# Altium schematic symbol library pira-smart-schlib.SchLib: 26 symbols
Pins are listed as number, name and electrical type; pins without a type are passive.

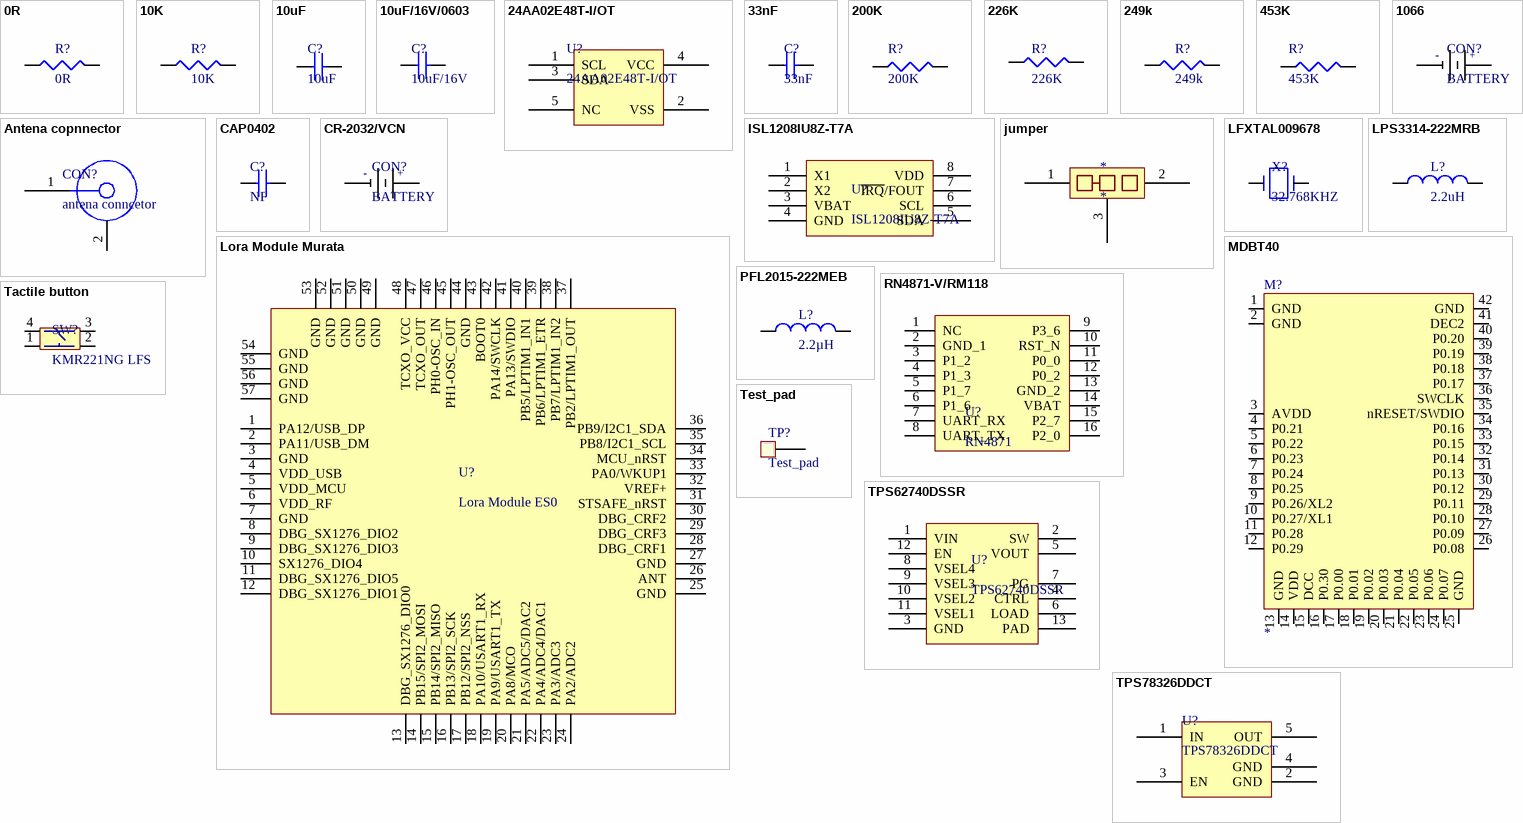
[diagram p0: symbols 0R to TPS78326DDCT]

## 0R
designator R?
Zero ohm resistor
footprint RES0603
pins: 1, 2

## 10K
designator R?
10K resistor
footprint RES0603
pins: 1, 2

## 10uF
designator C?
10uf/0603/20%; Manufacturer: KEMET; Manufacturer Part Number: C0603C106M8PACTU; Supplier 1: Farnell; Stock 1: 0; Pricing 1: 10=0.555, 100=0.315, 500=0.238, 1000=0.2, 2000=0.174, 4000=0.143, 20000=0.123 (GBP); Supplier Part Number 1: 2820985
footprint CAP0603
pins: 1, 2

## 10uF/16V/0603
designator C?, comment 10uF/16V
Multilayer Ceramic Capacitors MLCC - SMD/SMT 0603 10uF 16volts X5R 10%; Manufacturer: Murata; Manufacturer Part Number: GRM188R61C106KAALD; Voltage Rating DC: 16 VDC; Brand: Murata Electronics; Class: Class 2; Type: General Purpose Ceramic Capacitors; Unit Weight: 0.000222 oz; Supplier 1: Farnell; Stock 1: 13160; Pricing 1: 10=0.442, 100=0.241, 500=0.166, 1000=0.129 (GBP); Product Category: Multilayer Ceramic Capacitors MLCC - SMD/SMT; RoHS: True; Capacitance: 10 uF; Dielectric: X5R; Tolerance: 10 %; Case Code - in: 0603; Case Code - mm: 1608; Height: 0.8 mm; Maximum Operating Temperature: + 85 C; Minimum Operating Temperature: - 55 C; Product: General Type MLCCs; Series: GRM; Packaging: Reel; Length: 1.6 mm; Package / Case: 0603 (1608 metric); Factory Pack Quantity: 4000; Termination Style: SMD/SMT; Width: 0.8 mm; Supplier Part Number 1: 2611923
footprint CAP0603
pins: 1, 2

## 24AA02E48T-I/OT
designator U?
MICROCHIP   24AA02E48T-I/OT   EEPROM, EUI-48 Node Identity, 2 Kbit, 2 BLK (128K x 8bit), 400 kHz, I2C, SOT-23, 5 Pins; Interface: I2C,Serial; Access Time: 3500ns; Frequency: 400kHz; Max Supply Voltage: 5.5V; Min Supply Voltage: 1.7V; Nominal Supply Current: 3mA; Density: 2Kb; Operating Supply Voltage: 5V; Max Frequency: 100kHz; Supplier 1: Farnell; Manufacturer: Microchip; Manufacturer Part Number: 24AA02E48T-I/OT; Stock 1: 13638; Pricing 1: 1 = 0.17600, 10 = 0.17100, 25 = 0.16400, 50 = 0.16000, 100 = 0.15600 (GBP); RoHS: Yes; Mount: Surface Mount; Case/Package: SOT-23; Number of Pins: 5; Min Operating Temperature: -40°C; Max Operating Temperature: 85°C; Packaging: Tape and Reel; Package Quantity: 3000; Memory Type: EEPROM; Memory Size: 2Kb; Termination: SMD/SMT; Length: 3.1mm; Height: 1.3mm; Width: 1.8mm; Radiation Hardening: No; REACH SVHC: No SVHC; Lead Free: Lead Free; ComponentLink1URL: http://www.farnell.com/datasheets/1725195.pdf?src-supplier=Element14; ComponentLink1Description: http://www.farnell.com/datasheets/1725195.pdf?src-supplier=Element14; ComponentLink2URL: http://www.farnell.com/datasheets/631538.pdf?src-supplier=Element14; ComponentLink2Description: http://www.farnell.com/datasheets/631538.pdf?src-supplier=Element14; ComponentLink3URL: http://ww1.microchip.com/downloads/en/DeviceDoc/22124D.pdf?src-supplier=Avnet+Europe; ComponentLink3Description: http://ww1.microchip.com/downloads/en/DeviceDoc/22124D.pdf?src-supplier=Avnet+Europe; ComponentLink4URL: http://www.microchip.com/mymicrochip/filehandler.aspx?ddocname=en538826&src-supplier=Future+Electronics; ComponentLink4Description: http://www.microchip.com/mymicrochip/filehandler.aspx?ddocname=en538826&src-supplier=Future+Electronics; ComponentLink5URL: http://www.produktinfo.conrad.com/datenblaetter/650000-674999/651228-da-01-en-EEPROM_24AA02E48T_I_OT_SOT_23_5_MCP.pdf?src-supplier=Conrad; ComponentLink5Description: http://www.produktinfo.conrad.com/datenblaetter/650000-674999/651228-da-01-en-EEPROM_24AA02E48T_I_OT_SOT_23_5_MCP.pdf?src-supplier=Conrad; Supplier Part Number 1: 1688855
footprint SOT95P280X145-5N (SOT23, 5-Leads, Body 2.90x2.80mm, Pitch 0.95mm, IPC Medium Density)
pins: 1 SCL, 2 VSS, 3 SDA, 4 VCC, 5 NC

## 33nF
designator C?
MULTICOMP   MC0603B333K250CT   Multilayer Ceramic Capacitor, MC Series, 0.033 F,  10%, X7R, 25 V, 0603 [1608 Metric]; SVHC: To Be Advised; Voltage Rating: 25V; Capacitor Terminals: SMD; Supplier 1: Farnell; Manufacturer: Multicomp; Manufacturer Part Number: MC0603B333K250CT; Stock 1: 9606; Pricing 1: 10=0.0225, 100=0.0163, 500=0.0101, 1000=0.0083, 2000=0.007 (EUR); Capacitance: 33nF; Capacitance Tolerance: ± 10%; Dielectric Characteristic: X7R; Capacitor Case Style: 0603 [1608 Metric]; Operating Temperature Min: -55°C; Operating Temperature Max: 125°C; Packaging: Full Reel; MSL: (Not Available); ComponentLink1URL: https://datasheet.ciiva.com/22675/1901289-22675775.pdf; ComponentLink1Description: https://datasheet.ciiva.com/22675/1901289-22675775.pdf
footprint CAP0603
pins: 1, 2

## 200K
designator R?
PANASONIC ELECTRONIC COMPONENTS         ERA3AEB204V             SMD Chip Resistor, Thin Film, 200 kohm, 75 V, 0603 [1608 Metric], 100 mW,  0.1%, ERA Series; Manufacturer Part Number: ERA-3AEB204V; Power Rating: 100mW; Voltage Rating: 75V; Temperature Coefficient: ± 25ppm/°C; No. of Pins: 2; Product Range: PANASONIC - ERA Series; SVHC: No SVHC (16-Dec-2013); Reel Quantity: 5000; Supplier 1: Farnell; Manufacturer: Panasonic; Stock 1: 0; Resistance: 200kohm; Resistance Tolerance: ± 0.1%; Resistor Element Material: Thin Film; Resistor Case Style: 0603 [1608 Metric]; Resistor Mounting: SMD; Operating Temperature Max: 155°C; Operating Temperature Min: -55°C; Operating Temperature Range: -55°C to +155°C; Package / Case: 0603; Series: ERA; Packaging: Tape & Reel; ComponentLink1URL: https://www.distrelec.biz/Web/Downloads/_t/ds/ERA_eng_tds.pdf?mime=application%2Fpdf; ComponentLink1Description: https://www.distrelec.biz/Web/Downloads/_t/ds/ERA_eng_tds.pdf?mime=application%2Fpdf; ComponentLink2URL: http://www.farnell.com/datasheets/485442.pdf; ComponentLink2Description: http://www.farnell.com/datasheets/485442.pdf; ComponentLink3URL: http://www.farnell.com/datasheets/2059650.pdf; ComponentLink3Description: http://www.farnell.com/datasheets/2059650.pdf; ComponentLink4URL: http://www.farnell.com/datasheets/39837.pdf; ComponentLink4Description: http://www.farnell.com/datasheets/39837.pdf; ComponentLink5URL: http://industrial.panasonic.com/www-data/pdf/AOA0000/AOA0000CE26.pdf; ComponentLink5Description: http://industrial.panasonic.com/www-data/pdf/AOA0000/AOA0000CE26.pdf; ComponentLink6URL: https://www.alliedelec.com/m/d/b6b0537e86f421aa7f5975bb1d8f429a.pdf; ComponentLink6Description: https://www.alliedelec.com/m/d/b6b0537e86f421aa7f5975bb1d8f429a.pdf; ComponentLink7URL: http://www.produktinfo.conrad.com/datenblaetter/450000-474999/451764-da-01-en-WIDERSTAND_0603_ERA.pdf; ComponentLink7Description: http://www.produktinfo.conrad.com/datenblaetter/450000-474999/451764-da-01-en-WIDERSTAND_0603_ERA.pdf; Supplier Part Number 1: 1670206
footprint RES0603
pins: 1, 2

## 226K
designator R?
Thick Film Resistors - SMD 1/10watt 226Kohms 1%; Manufacturer: Vishay; Manufacturer Part Number: CRCW0603226KFKEA; Brand: Vishay / Dale; Power Rating: 100 mW; Temperature Coefficient: 100 PPM / K; Voltage Rating: 75 V; Unit Weight: 0.000071 oz; Supplier 1: Farnell; Stock 1: 6700; Pricing 1: 10=0.0188, 100=0.0145, 500=0.0124, 1000=0.008 (GBP); Product Category: Thick Film Resistors - SMD; RoHS: Details; Resistance: 226 kOhms; Tolerance: 1 %; Case Code - in: 0603; Case Code - mm: 1608; Operating Temperature Range: - 55 C to + 155 C; Series: CRCW; Height: 0.45 mm; Length: 1.55 mm; Package / Case: 0603 (1608 metric); Packaging: Reel; Product: Thick Film Resistors SMD; Factory Pack Quantity: 5000; Termination Style: SMD/SMT; Width: 0.85 mm; ComponentLink1URL: http://www.mouser.com/ds/2/427/dcrcwe3-109170.pdf; ComponentLink1Description: http://www.mouser.com/ds/2/427/dcrcwe3-109170.pdf; ComponentLink2URL: http://www.vishay.com/docs/20035/dcrcwe3.pdf; ComponentLink2Description: http://www.vishay.com/docs/20035/dcrcwe3.pdf; ComponentLink3URL: http://www.farnell.com/datasheets/2045674.pdf; ComponentLink3Description: http://www.farnell.com/datasheets/2045674.pdf; ComponentLink4URL: https://www.alliedelec.com/m/d/0c934d6939ccefa68dbe0b96d821c8cf.pdf; ComponentLink4Description: https://www.alliedelec.com/m/d/0c934d6939ccefa68dbe0b96d821c8cf.pdf; ComponentLink5URL: http://uk.rs-online.com/webdocs/0d98/0900766b80d98afc.pdf; ComponentLink5Description: http://uk.rs-online.com/webdocs/0d98/0900766b80d98afc.pdf; ComponentLink6URL: http://www.alliedelec.com/m/d/0c934d6939ccefa68dbe0b96d821c8cf.pdf; ComponentLink6Description: http://www.alliedelec.com/m/d/0c934d6939ccefa68dbe0b96d821c8cf.pdf; ComponentLink7URL: http://www.farnell.com/datasheets/2111203.pdf; ComponentLink7Description: http://www.farnell.com/datasheets/2111203.pdf; Supplier Part Number 1: 2138531
footprint RES0603
pins: 1, 2

## 249k
designator R?
MULTICOMP         MCWR06X2493FTL             SMD Chip Resistor, Thick Film, 249 kohm, 50 V, 0603 [1608 Metric], 100 mW,  1%, MCWR Series; Voltage Rating: 50V; Power Rating: 100mW; Temperature Coefficient: ± 100ppm/°C; SVHC: No SVHC (17-Dec-2015); Supplier 1: Farnell; Manufacturer: Multicomp; Manufacturer Part Number: MCWR06X2493FTL; Stock 1: 5347; Pricing 1: 10=0.0035, 100=0.0021, 500=0.0015, 1000=0.0012, 2500=0.001 (EUR); Resistance: 249kohm; Resistor Case Style: 0603 [1608 Metric]; Resistance Tolerance: ± 1%; Product Range: MCWR Series; Packaging: Cut Tape; Resistor Element Type: Thick Film; Automotive Qualification Standard: -; MSL: -; ComponentLink1URL: http://www.farnell.com/datasheets/1849611.pdf; ComponentLink1Description: http://www.farnell.com/datasheets/1849611.pdf; Supplier Part Number 1: 2447306
footprint RES0603
pins: 1, 2

## 453K
designator R?
RES SMD 453K OHM 1% 1/10W 0603; Manufacturer: Vishay; Manufacturer Part Number: CRCW0603453KFKEA; Brand: Vishay / Dale; Resistance: 453 kOhms; Power Rating: 100 mW; Temperature Coefficient: 100 PPM / K; Voltage Rating: 75 V; Case Height: 0.45 mm; Case Length: 1.55 mm; Case Width: 0.85 mm; Unit Weight: 0.000071 oz; Supplier 1: Farnell; Stock 1: 24488; Pricing 1: 10=0.0188, 100=0.0145, 500=0.0125, 1000=0.008 (GBP); Product Category: Thick Film Resistors - SMD; RoHS: Details; Tolerance: 1 %; Case Code - in: 0603; Case Code - mm: 1608; Operating Temperature Range: - 55 C to + 155 C; Package / Case: 0603 (1608 metric); Packaging: Reel; Product: Thick Film Resistors SMD; Series: CRCW; Factory Pack Quantity: 5000; ComponentLink1URL: http://www.vishay.com/docs/20035/dcrcwe3.pdf; ComponentLink1Description: http://www.vishay.com/docs/20035/dcrcwe3.pdf; ComponentLink2URL: http://www.farnell.com/datasheets/125364.pdf; ComponentLink2Description: http://www.farnell.com/datasheets/125364.pdf; ComponentLink3URL: http://www.farnell.com/datasheets/2111203.pdf; ComponentLink3Description: http://www.farnell.com/datasheets/2111203.pdf; ComponentLink4URL: http://www.mouser.com/ds/2/427/dcrcwe3-109170.pdf; ComponentLink4Description: http://www.mouser.com/ds/2/427/dcrcwe3-109170.pdf; ComponentLink5URL: http://www.farnell.com/datasheets/1697337.pdf; ComponentLink5Description: http://www.farnell.com/datasheets/1697337.pdf; ComponentLink6URL: http://www.farnell.com/datasheets/2049244.pdf; ComponentLink6Description: http://www.farnell.com/datasheets/2049244.pdf; Supplier Part Number 1: 2138564
footprint RES0603
pins: 1, 2

## 1066
designator CON?, comment BATTERY
HOLDER BATT COIN COMPACT 20MM; Manufacturer: Keystone Electronics; Manufacturer Part Number: 1066; Body Material: Nylon,Glass; Number of Batteries: 1; Approvals: UL; Supplier 1: Farnell; Stock 1: 17073; Pricing 1: 1=1, 50=0.97, 100=0.947, 500=0.927, 1000=0.847 (EUR); Mount: Through Hole,Holder,PCB; Contact Plating: Tin; Contact Material: Bronze,Copper,Tin; Material: Bronze; Min Operating Temperature: -50°C; Max Operating Temperature: 145°C; Packaging: Bulk; Number of Cells: 1; Package Quantity: 1; Termination: PC Pin; Diameter: 20mm; REACH SVHC: No SVHC; Lead Free: Lead Free; ComponentLink1URL: https://datasheet.ciiva.com/3/1066-3994.pdf; ComponentLink1Description: https://datasheet.ciiva.com/3/1066-3994.pdf; ComponentLink2URL: https://datasheet.ciiva.com/1391/1718229-1391198.pdf; ComponentLink2Description: https://datasheet.ciiva.com/1391/1718229-1391198.pdf; ComponentLink3URL: https://datasheet.ciiva.com/12342/m60p3-4068-12342995.pdf; ComponentLink3Description: https://datasheet.ciiva.com/12342/m60p3-4068-12342995.pdf; ComponentLink4URL: https://datasheet.ciiva.com/18403/70181436-18403177.pdf; ComponentLink4Description: https://datasheet.ciiva.com/18403/70181436-18403177.pdf; ComponentLink5URL: https://datasheet.ciiva.com/22643/1814063-22643020.pdf; ComponentLink5Description: https://datasheet.ciiva.com/22643/1814063-22643020.pdf; ComponentLink6URL: https://datasheet.ciiva.com/16322/m60-2p3-16322780.pdf; ComponentLink6Description: https://datasheet.ciiva.com/16322/m60-2p3-16322780.pdf; Supplier Part Number 1: 2293258
footprint 1066_1066(Primary)
pins: NEG, POS
text: -; +

## Antena copnnector
designator CON?, comment antena conncetor
CONN UMC JACK STR 50 OHM SMD; Manufacturer: Hirose; Manufacturer Part Number: U.FL-R-SMT-1(10); Featured Product: U.FL Series Connectors; Connector Style: U.FL, Ultra Miniature Coaxial; Connector Type: Receptacle, Male Pin; Contact Termination: Solder; Impedance: 50 Ohm; Frequency - Max: 6GHz; Body Material: Phosphor Bronze; Body Finish: Silver; Center Contact Material: Brass; Center Contact Plating: Gold; Dielectric Material: Liquid Crystal Polymer (LCP); Online Catalog: UMCC (Ultra Miniature Coax Connectors), U.FL Series; Other Names: H11891TR  Q5400621  U.FL-R-SMT-1 10  U.FL-R-SMT-1(10)-ND  UFLRSMT110; Supplier 1: Farnell; Stock 1: 0; Standard Package: 2,500; Category: Connectors, Interconnects; Family: Coaxial Connectors (RF); Series: U.FL; Packaging: Tape & Reel (TR); Shield Termination: Solder; Mounting Type: Surface Mount; Cable Group: -; Fastening Type: Snap-On; Features: -; Housing Color: Beige; Ingress Protection: -; Voltage Rating: -; Operating Temperature: -40°C ~ 90°C; ComponentLink1URL: http://www.farnell.com/datasheets/91524.pdf; ComponentLink1Description: http://www.farnell.com/datasheets/91524.pdf; ComponentLink2URL: http://uk.rs-online.com/webdocs/1363/0900766b81363563.pdf; ComponentLink2Description: http://uk.rs-online.com/webdocs/1363/0900766b81363563.pdf; ComponentLink3URL: http://www.farnell.com/datasheets/1947917.pdf; ComponentLink3Description: http://www.farnell.com/datasheets/1947917.pdf; Supplier Part Number 1: 1688077
footprint ufl connector smd
pins: 1 (oc), 2 (oc)

## CAP0402
designator C?, comment NF
Cap 0402 footprint only
footprint Model Name (Footprint not found)
footprint CAP0402
pins: 1, 2

## CR-2032/VCN
designator CON?, comment BATTERY
BATT LITH COIN 3V CELL PC PINS; Manufacturer: Panasonic BSG; Manufacturer Part Number: CR-2032/VCN; Brand: Panasonic Battery; Battery Size: 2032; Capacity: 225 mAh; Chemistry: Lithium; Rechargeable/Non-Rechargeable: Non-Rechargeable; Supplier 1: Farnell; Stock 1: 1004; Pricing 1: 1=0.91, 50=0.892, 100=0.874, 500=0.855, 1000=0.837 (GBP); Product Category: Coin Cell Battery; RoHS: Not Applicable; Series: CR; Output Voltage: 3 V; Termination Style: Through Hole; Orientation: Vertical; Diameter: 20 mm; Height: 3.2 mm; Operating Temperature Range: - 30 C to + 60 C; Packaging: Bulk; Factory Pack Quantity: 480; Type: Lithium Primary Coil Batteries; Part # Aliases: CR-2032/VCN; ComponentLink1URL: http://www.mouser.com/ds/2/315/AAA4000CE51-586417.pdf; ComponentLink1Description: http://www.mouser.com/ds/2/315/AAA4000CE51-586417.pdf; ComponentLink2URL: http://uk.rs-online.com/webdocs/108e/0900766b8108ebf4.pdf; ComponentLink2Description: http://uk.rs-online.com/webdocs/108e/0900766b8108ebf4.pdf; ComponentLink3URL: https://na.industrial.panasonic.com/sites/default/pidsa/files/panasonic-lithium-cr2032-datasheet.pdf; ComponentLink3Description: https://na.industrial.panasonic.com/sites/default/pidsa/files/panasonic-lithium-cr2032-datasheet.pdf; Supplier Part Number 1: 1892670
footprint CR-2032/VCN
pins: NEG, POS
text: -; +

## ISL1208IU8Z-T7A
designator U?
IC RTC/CALENDAR I2C LP 8MSOP; Manufacturer: Intersil; Max Supply Voltage: 5.5V; Min Supply Voltage: 2.7V; Non-volatile Memory Size: 2B; Interface: I2C,Serial,2-Wire; Logic Function: Clock; Time Format: HH:MM:SS; Date Format: YY-MM-DD-dd; Supplier 1: Farnell; Manufacturer Part Number: ISL1208IU8Z-T7A; Stock 1: 321; Pricing 1: 1=2.63, 10=2.24, 25=2.12, 50=2.01, 100=1.89, 250=1.84, 500=1.65, 1000=1.37 (EUR); Mount: Surface Mount; Case/Package: MSOP; Number of Pins: 8; Min Operating Temperature: -40°C; Max Operating Temperature: 85°C; Packaging: Tape and Reel; Package Quantity: 250; Memory Size: 2B; Radiation Hardening: No; REACH SVHC: Unknown; Lead Free: Lead Free; ComponentLink1URL: https://datasheet.ciiva.com/16293/fn8085-16293145.pdf; ComponentLink1Description: https://datasheet.ciiva.com/16293/fn8085-16293145.pdf; ComponentLink2URL: https://datasheet.ciiva.com/8145/fn8085-8145071.pdf; ComponentLink2Description: https://datasheet.ciiva.com/8145/fn8085-8145071.pdf; ComponentLink3URL: https://datasheet.ciiva.com/6668/fn8085-6668119.pdf; ComponentLink3Description: https://datasheet.ciiva.com/6668/fn8085-6668119.pdf; ComponentLink4URL: https://datasheet.ciiva.com/6668/fn8085-6668117.pdf; ComponentLink4Description: https://datasheet.ciiva.com/6668/fn8085-6668117.pdf; ComponentLink5URL: https://datasheet.ciiva.com/6668/fn8085-6668118.pdf; ComponentLink5Description: https://datasheet.ciiva.com/6668/fn8085-6668118.pdf; Supplier Part Number 1: 2543322
footprint TSOP65P500X110-8N (TSOP, 8-Leads, Body 3.00x3.00mm, Pitch 0.65mm, IPC Medium Density)
pins: 1 X1 (oc), 2 X2 (oc), 3 VBAT (oc), 4 GND (oc), 5 SDA (oc), 6 SCL (oc), 7 ~{IRQ}/FOUT (oc), 8 VDD (oc)

## jumper
designator *
pins: 1 (oc), 2 (oc), 3 (oc)

## LFXTAL009678
designator X?, comment 32.768KHZ
CRYSTAL, 32.768KHZ, 12.5PF, SMD; Manufacturer: IQD; Manufacturer Part Number: LFXTAL009678; Frequency: 32.8kHz; Supplier 1: Farnell; Stock 1: 15609; Pricing 1: 5=0.283, 50=0.203, 250=0.169, 500=0.163, 1500=0.157, 3000=0.152, 15000=0.146 (EUR); Case/Package: 217; Number of Pins: 2; Min Operating Temperature: -40°C; Max Operating Temperature: 85°C; Load Capacitance: 12.5pF; REACH SVHC: No SVHC; ComponentLink1URL: https://datasheet.ciiva.com/46419/1852967-46419749.pdf; ComponentLink1Description: https://datasheet.ciiva.com/46419/1852967-46419749.pdf; Supplier Part Number 1: 2449398
footprint LFXTAL009678
pins: 1, 2

## Lora Module Murata
designator U?, comment Lora Module ES0
Lora Module Murata; Manufacturer Part Number: CMWX1ZZABZ-091; Supplier 1: Farnell; Manufacturer: Murata; Stock 1: 175; Pricing 1: 1=11.7, 5=11.06, 10=9.94, 50=9.54, 100=9.14, 250=8.05 (GBP); Supplier Part Number 1: 2802546
footprint Lora Module ES0
pins: 1 PA12/USB_DP, 2 PA11/USB_DM, 3 GND, 4 VDD_USB, 5 VDD_MCU, 6 VDD_RF, 7 GND, 8 DBG_SX1276_DIO2, 9 DBG_SX1276_DIO3, 10 SX1276_DIO4, 11 DBG_SX1276_DIO5, 12 DBG_SX1276_DIO1, 13 DBG_SX1276_DIO0, 14 PB15/SPI2_MOSI, 15 PB14/SPI2_MISO, 16 PB13/SPI2_SCK, 17 PB12/SPI2_NSS, 18 PA10/USART1_RX, 19 PA9/USART1_TX, 20 PA8/MCO, 21 PA5/ADC5/DAC2, 22 PA4/ADC4/DAC1, 23 PA3/ADC3, 24 PA2/ADC2, 25 GND, 26 ANT, 27 GND, 28 DBG_CRF1, 29 DBG_CRF3, 30 DBG_CRF2, 31 STSAFE_nRST, 32 VREF+, 33 PA0/WKUP1, 34 MCU_nRST, 35 PB8/I2C1_SCL, 36 PB9/I2C1_SDA, 37 PB2/LPTIM1_OUT, 38 PB7/LPTIM1_IN2, 39 PB6/LPTIM1_ETR, 40 PB5/LPTIM1_IN1, 41 PA13/SWDIO, 42 PA14/SWCLK, 43 BOOT0, 44 GND, 45 PH1-OSC_OUT, 46 PH0-OSC_IN, 47 TCXO_OUT, 48 TCXO_VCC, 49 GND, 50 GND, 51 GND, 52 GND, 53 GND, 54 GND, 55 GND, 56 GND, 57 GND

## LPS3314-222MRB
designator L?, comment 2.2uH
COILCRAFT   LPS3314-222MRB   INDUCTOR, SHLD, 2.2UH, 20%, 1.2A, SMD; Core Material: Ferrite; Saturation Current: 1.4A; DC Resistance (DCR): 100mR; Shielding: Shielded; Max DC Current: 1.5A; Self Resonant Frequency: 140MHz; Test Frequency: 100kHz; Supplier 1: Farnell; Manufacturer: Coilcraft; Manufacturer Part Number: LPS3314-222MRB; Stock 1: 608; Pricing 1: 1=0.898, 250=0.706, 500=0.555 (EUR); Weight: 0.001411oz; Min Operating Temperature: -40°C; Max Operating Temperature: 85°C; Inductance Tolerance: 20%; Packaging: Cut Tape; Inductance: 2.2uh; RMS Current (Irms): 1.2A; Termination: SMD/SMT; Tolerance: 20%; Package Quantity: 1; Length: 3mm; Height: 1.4mm; Width: 3mm; REACH SVHC: No SVHC; ComponentLink1URL: https://datasheet.ciiva.com/46438/1805322-46438527.pdf; ComponentLink1Description: https://datasheet.ciiva.com/46438/1805322-46438527.pdf; ComponentLink2URL: https://datasheet.ciiva.com/46384/1805322-46384794.pdf; ComponentLink2Description: https://datasheet.ciiva.com/46384/1805322-46384794.pdf; Supplier Part Number 1: 2408039
footprint LPS3314
pins: 1, 2

## MDBT40
designator M?
MDBT40
footprint PCB_MDBT40_10X18
pins: 1 GND, 2 GND, 3 AVDD, 4 P0.21, 5 P0.22, 6 P0.23, 7 P0.24, 8 P0.25, 9 P0.26/XL2, 10 P0.27/XL1, 11 P0.28, 12 P0.29, 13 GND, 14 VDD, 15 DCC, 16 P0.30, 17 P0.00, 18 P0.01, 19 P0.02, 20 P0.03, 21 P0.04, 22 P0.05, 23 P0.06, 24 P0.07, 25 GND, 26 P0.08, 27 P0.09, 28 P0.10, 29 P0.11, 30 P0.12, 31 P0.13, 32 P0.14, 33 P0.15, 34 P0.16, 35 nRESET/SWDIO, 36 SWCLK, 37 P0.17, 38 P0.18, 39 P0.19, 40 P0.20, 41 DEC2, 42 GND

## PFL2015-222MEB
designator L?, comment 2.2µH
Fixed Inductors PFL2015 Shld Power 2.2 uH 20 % 1 A; Manufacturer: Coilcraft; Manufacturer Part Number: PFL2015-222MEB; SVHC: To Be Advised; Product Range: Coilcraft - PFL2015 Series; Inductance Tolerance: ± 20%; DC Resistance Max: 0.21ohm; DC Current Rating: 1A; Self Resonant Frequency: 100MHz; Inductor Case Style: SMD; Core Material: (Not Applicable); Supplier 1: Farnell; Stock 1: 3300; Pricing 1: 1=0.475, 200=0.383, 500=0.333 (EUR); Inductance: 2.2µH; ComponentLink1URL: https://datasheet.ciiva.com/22701/1681966-22701687.pdf; ComponentLink1Description: https://datasheet.ciiva.com/22701/1681966-22701687.pdf; ComponentLink2URL: https://datasheet.ciiva.com/22679/1681966-22679157.pdf; ComponentLink2Description: https://datasheet.ciiva.com/22679/1681966-22679157.pdf
footprint INDC2214X15N (Chip Inductor, 2-Leads, Body 2.20x1.45mm, IPC Medium Density)
pins: 1, 2

## RN4871-V/RM118
designator U?, comment RN4871
MICROCHIP         RN4871-V/RM118             BLE MOD W/ANTENNA, 2.442MHZ, 0.1DBI                          New; Supply Voltage Min: 1.9V; Supply Voltage Max: 3.6V; Bluetooth Version: Bluetooth 4.2; Bluetooth Class: Class 2; Receive Sensitivity: -90dBm; Product Range: RN Series; SVHC: No SVHC (17-Dec-2015); Supplier 1: Farnell; Manufacturer: Microchip; Manufacturer Part Number: RN4871-V/RM118; Stock 1: 2428; Pricing 1: 1=5.4, 25=5.08, 100=4.98 (GBP); Signal Range Max: -; Data Rate: -; Operating Temperature Min: -20°C; Operating Temperature Max: 70°C; Supplier Part Number 1: 2664514
footprint RN4871
pins: 1 NC, 2 GND_1, 3 P1_2, 4 P1_3, 5 P1_7, 6 P1_6, 7 UART_RX, 8 UART_TX, 9 P3_6, 10 RST_N, 11 P0_0, 12 P0_2, 13 GND_2, 14 VBAT, 15 P2_7, 16 P2_0

## Tactile button
designator SW?, comment KMR221NG LFS
SWITCH TACTILE SPST-NO 0.05A 32V; Manufacturer: ITT C&K; Pole Throw Configuration: SPST; Mechanical Life: 200000 Cycles; Switch Configuration: N.O.; Illumination Type: N/R; Ground Terminal: No; Body Orientation: Straight; Actuator Length: 0.5 mm; Operating Force: 2 N; Actuator Style: Round Button; Dielectric Strength: >=250 Vrms; Minimum Insulation Resistance: >=1000 MOhm; Contact Rating @ Voltage: 1 A; Supplier 1: C&K Components; Manufacturer Part Number: KMR221NGLFS; Stock 1: 4985; Pricing 1: 10=0.278, 500=0.264, 1000=0.208, 5000=0.204, 10000=0.2 (GBP); Part No: KMR221NGLFS; RoHS: Yes; Supplier Standard Pack: 7,000; Type: Micro-Miniature; Maximum AC Voltage Rating: N/A; Family: KMR 2; Contact Material: Silver; Actuator Color: N/A; Maximum DC Voltage Rating: 32 V; Seal Description: N/A; Packaging: Tape and Reel; Contact Plating: Silver; Electrical Life: N/A; Housing Material: N/A; Product Weight: N/A; Base Material: N/A; Mounting: Surface Mount,Gull Wing; Seal Location: N/A; Operating Temperature: -40 to 85 C; Dimension: 2.8 x 4.6 x 1.9 mm; HTS: 8536501199; ECCN: EAR99; ComponentLink1URL: https://www.ckswitches.com/media/1479/kmr2.pdf; ComponentLink1Description: https://www.ckswitches.com/media/1479/kmr2.pdf; ComponentLink2URL: http://www.ck-components.com/14414/kmr2_9aug12.pdf/; ComponentLink2Description: http://www.ck-components.com/14414/kmr2_9aug12.pdf/; ComponentLink3URL: http://www.ck-components.com/index.php?module=media&action=Display&cmpref=14414&lang=en&width=&height=&format=&alt=; ComponentLink3Description: http://www.ck-components.com/index.php?module=media&action=Display&cmpref=14414&lang=en&width=&height=&format=&alt=; ComponentLink4URL: http://www1.futureelectronics.com/doc/C%20-%20K%20COMPONENTS/KMR221NGLFS.pdf; ComponentLink4Description: http://www1.futureelectronics.com/doc/C%20-%20K%20COMPONENTS/KMR221NGLFS.pdf; Supplier Part Number 1: 2845727
footprint Tactile button
pins: 1, 2, 3, 4

## Test_pad
designator TP?
footprint Test_pad
pins: 1

## TPS62740DSSR
designator U?
Voltage Regulators - Switching Regulators 360-nA Iq SD Cnvtr w/ Intg Load Switch; Manufacturer: Texas Instruments; Number of Outputs: 1; Output Voltage: 3.3V; Max Output Current: 300mA; Min Input Voltage: 2.2V; Max Input Voltage: 5.5V; Efficiency: 90%; Switching Frequency: 2MHz; Min Output Voltage: 1.8V; Quiescent Current: 300nA; Supplier 1: Farnell; Manufacturer Part Number: TPS62740DSSR; Stock 1: 2440; Pricing 1: 5=1.44, 50=1.1, 250=1.05, 500=0.707, 1500=0.688 (EUR); Mount: Surface Mount; Number of Pins: 12; Min Operating Temperature: -40°C; Max Operating Temperature: 85°C; Package Quantity: 3000; Packaging: Tape and Reel; Output Current: 300mA; Min Supply Voltage: 2.2V; Operating Supply Current: 300mA; Max Output Voltage: 3.3V; Operating Supply Voltage: 5.5V; Radiation Hardening: No; REACH SVHC: No SVHC; Lead Free: Lead Free; ComponentLink1URL: https://datasheet.ciiva.com/29899/tps62740-29899468.pdf; ComponentLink1Description: https://datasheet.ciiva.com/29899/tps62740-29899468.pdf; ComponentLink2URL: https://datasheet.ciiva.com/29567/tps62740-29567318.pdf; ComponentLink2Description: https://datasheet.ciiva.com/29567/tps62740-29567318.pdf; Supplier Part Number 1: 2781752
footprint SON50P200X265_HS-13N (SON, 12-Leads, Body 3.00x2.00mm, Pitch 0.50mm, Thermal Pad 2.00x0.79mm, IPC Medium Density)
pins: 1 VIN (oc), 2 SW (oc), 3 GND (oc), 4 CTRL (oc), 5 VOUT (oc), 6 LOAD (oc), 7 PG (oc), 8 VSEL4 (oc), 9 VSEL3 (oc), 10 VSEL2 (oc), 11 VSEL1 (oc), 12 EN (oc), 13 PAD (oc)

## TPS78326DDCT
designator U?
IC REG LINEAR 2.6V 150MA SOT23-5; Manufacturer: Texas Instruments; Number of Outputs: 1; Min Input Voltage: 2.2V; Max Input Voltage: 5.5V; Max Power Dissipation: 500mW; Dropout Voltage: 130mV; Polarity: Positive; Quiescent Current: 500nA; Accuracy: 2%; Output Type: Fixed; Supplier 1: Digi-Key; Manufacturer Part Number: TPS78326DDCT; Stock 1: 873; Pricing 1: 1 = 0.96000, 10 = 0.85700, 100 = 0.66810 (USD); RoHS: Yes; Mount: Surface Mount; Case/Package: TSOT; Number of Pins: 5; Min Operating Temperature: -40°C; Max Operating Temperature: 105°C; Output Voltage: 2.6V; Packaging: Tape and Reel; Max Output Current: 150mA; Package Quantity: 1; Output Current: 150mA; Number of Regulators: 1; Min Current Limit: 150mA; Nominal Output Voltage: 2.6V; Power Rating: 500mW; Power Dissipation: 500mW; Output Voltage Accuracy: 2%; Length: 3.05mm; Height: 1mm; Width: 1.75mm; Radiation Hardening: No; REACH SVHC: No SVHC; Lead Free: Lead Free; ComponentLink1URL: http://www.ti.com/lit/ds/symlink/tps783.pdf?src-supplier=Digi-Key; ComponentLink1Description: http://www.ti.com/lit/ds/symlink/tps783.pdf?src-supplier=Digi-Key; ComponentLink2URL: http://www.mouser.com/ds/2/405/sbvs133a-521627.pdf?src-supplier=Mouser; ComponentLink2Description: http://www.mouser.com/ds/2/405/sbvs133a-521627.pdf?src-supplier=Mouser; ComponentLink3URL: http://www.farnell.com/datasheets/1865508.pdf?src-supplier=Element14; ComponentLink3Description: http://www.farnell.com/datasheets/1865508.pdf?src-supplier=Element14; Supplier Part Number 1: 296-35542-1-ND
footprint SOT95P280X145-5N (SOT23, 5-Leads, Body 2.90x2.80mm, Pitch 0.95mm, IPC Medium Density)
pins: 1 IN, 2 GND, 3 EN, 4 GND, 5 OUT